# Altium footprint library PcbLib1.PcbLib: 30 footprints (part 2 of 2)
Each footprint in its own frame and in the unit in brackets; x right, y up, seen from the top. Pads: shape width x height; smd on the part's side, far side on the other; paste and mask are expansions set on the pad; w line width, h text height; cw(c..) or ccw(c..) is an arc to the next point about the centre after c.
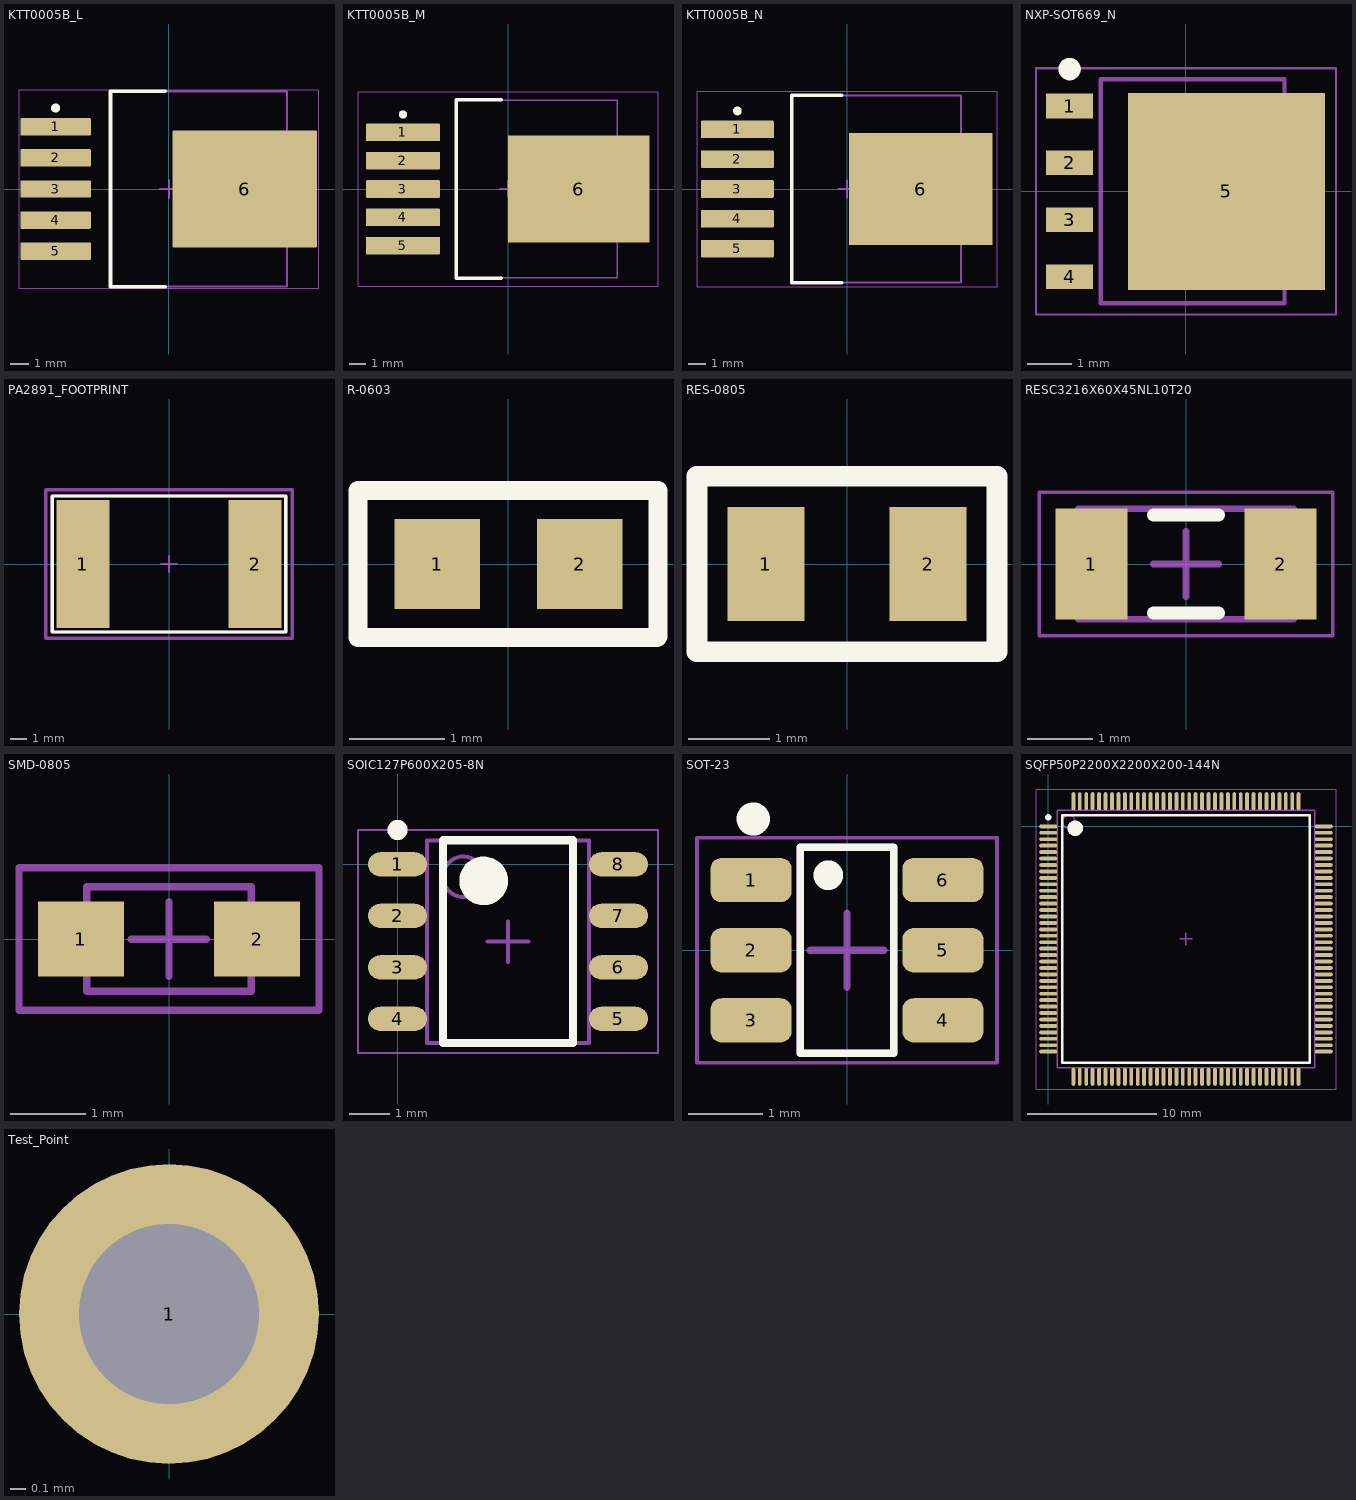
[diagram p1: the footprints below, top view; thin cyan lines are the x and y axes]

## KTT0005B_L [mm] "DPAK, 5-Leads, Body 10.65x9.65mm, Pitch 1.7mm, IPC High Density"
height 4.83
pads (6):
  rrect11% 3.85x0.95 smd: 1(-6.2,3.4) 2(-6.2,1.7) 3(-6.2,0) 4(-6.2,-1.7) 5(-6.2,-3.4)
  rrect2% 7.9x6.4 smd: 6(4.15,0)
Top Overlay:
  circle w0.25: c-6.2,4.425 r0.125
  lines w0.2: -0.2,-5.35 -3.2,-5.35 -3.2,5.35 -0.2,5.35
Mechanical 1:
  text ".Designator" at -1.905,-0.508 h1.3
Mechanical 13:
  lines w0.1: -3.2,-5.325 -3.2,5.325 6.45,5.325 6.45,-5.325 -3.2,-5.325
Mechanical 15:
  lines w0.05: -8.2,-5.425 -8.2,5.425 8.2,5.425 8.2,-5.425 -8.2,-5.425
  lines w0.1: -0.5,0 0.5,0 ; 0,-0.5 0,0.5
3D body: height 4.83, standoff 0, extent -3.2,-5.325 6.45,5.325

## KTT0005B_M [mm] "DPAK, 5-Leads, Body 10.65x9.65mm, Pitch 1.7mm, IPC Low Density"
height 4.83
pads (6):
  rrect10% 4.45x1.05 smd: 1(-6.3,3.4) 2(-6.3,1.7) 3(-6.3,0) 4(-6.3,-1.7) 5(-6.3,-3.4)
  rrect2% 8.5x6.45 smd: 6(4.25,0)
Top Overlay:
  circle w0.25: c-6.3,4.475 r0.125
  lines w0.2: -0.4,-5.35 -3.1,-5.35 -3.1,5.35 -0.4,5.35
Mechanical 1:
  text ".Designator" at -1.905,-0.635 h1.3
Mechanical 13:
  lines w0.1: -3.1,-5.325 -3.1,5.325 6.55,5.325 6.55,-5.325 -3.1,-5.325
Mechanical 15:
  lines w0.05: -9,-5.825 -9,5.825 9,5.825 9,-5.825 -9,-5.825
  lines w0.1: -0.5,0 0.5,0 ; 0,-0.5 0,0.5
3D body: height 4.83, standoff 0, extent -3.1,-5.325 6.55,5.325

## KTT0005B_N [mm] "DPAK, 5-Leads, Body 10.65x9.65mm, Pitch 1.7mm, IPC Medium Density"
height 4.83
pads (6):
  rrect10% 4.15x1 smd: 1(-6.25,3.4) 2(-6.25,1.7) 3(-6.25,0) 4(-6.25,-1.7) 5(-6.25,-3.4)
  rrect2% 8.2x6.4 smd: 6(4.2,0)
Top Overlay:
  circle w0.25: c-6.25,4.45 r0.125
  lines w0.2: -0.3,-5.35 -3.15,-5.35 -3.15,5.35 -0.3,5.35
Mechanical 1:
  text ".Designator" at -1.905,-0.508 h1.3
Mechanical 13:
  lines w0.1: -3.15,-5.325 -3.15,5.325 6.5,5.325 6.5,-5.325 -3.15,-5.325
Mechanical 15:
  lines w0.05: -8.55,-5.575 -8.55,5.575 8.55,5.575 8.55,-5.575 -8.55,-5.575
  lines w0.1: -0.5,0 0.5,0 ; 0,-0.5 0,0.5
3D body: height 4.83, standoff 0, extent -3.15,-5.325 6.5,5.325

## NXP-SOT669_N [mm] "DPAK, 4-Leads, Body 5x4.1mm, Pitch 1.27mm, IPC Medium Density"
height 1.2
pads (5):
  rect 1.05x0.55 smd: 1(-2.6,1.905) 2(-2.6,0.635) 3(-2.6,-0.635) 4(-2.6,-1.905)
  rect 4.4x4.4 smd: 5(0.9,0)
Top Overlay:
  circle w0.25: c-2.6,2.73 r0.125
Mechanical 13:
  lines w0.1: -1.9,-2.5 2.2,-2.5 2.2,2.5 -1.9,2.5 -1.9,-2.5
Mechanical 15:
  lines w0.05: -3.35,-2.75 3.35,-2.75 3.35,2.75 -3.35,2.75 -3.35,-2.75
  lines w0.1: -0.5,0 0.5,0 ; 0,-0.5 0,0.5
3D body: height 1.2, standoff 0, extent -1.9,-2.5 2.2,2.5

## PA2891_FOOTPRINT [mm]
pads (2):
  rect 3.18x7.65 smd paste+0: 1(-5.15,0) 2(5.15,0)
Top Overlay:
  lines w0.2: -6.985,-1.778 -6.985,4.064 6.985,4.064 6.985,-4.064 ; -6.985,-0.381 -6.985,-4.064 6.985,-4.064 ; 6.985,-2.425 6.985,-4.064
Mechanical 5:
  lines w0.2: -6.985,-4.064 -6.985,4.064 6.985,4.064 6.985,-4.064 -6.985,-4.064
  text ".Designator" at 0,0.188 h1
Mechanical 15:
  lines w0.1: -0.5,0 0.5,0 ; 0,-0.5 0,0.5
  lines w0.2: -7.366,-4.445 7.366,-4.445 7.366,4.445 -7.366,4.445 -7.366,-4.445
3D body: height 8, standoff 0, extent -6.35,-3.556 6.35,3.683

## PCBComponent_1 [mm]

## R-0603 [mm] "Resistor  0603"
height 0.6
pads (2):
  rect 0.9x0.95 smd: 1(-0.75,0) 2(0.75,0)
Top Overlay:
  lines w0.2: -1.585,-0.775 1.4,-0.775 1.565,-0.775 1.575,-0.765 1.575,0.775 1.4,0.775 -1.4,0.775 -1.585,0.775 -1.585,-0.775
3D body "CAP0603.STEP": height 0.86, standoff 0, extent -0.8,-0.4 0.8,0.4

## RES-0805 [mm] "SMD, 0805"
height 0.55
pads (2):
  rect 0.95x1.4 smd: 1(-1,0) 2(1,0)
Top Overlay:
  lines w0.254: -1.85,-1.08 1.85,-1.08 1.85,1.08 -1.85,1.08 -1.85,-1.08
3D body "RESC0805.STEP": height 0.45, standoff 0, extent -1,-0.62 1,0.63

## RESC3216X60X45NL10T20 [mm] "Chip Resistor, 2-Leads, Body 3.20x1.60mm, IPC Medium Density"
height 0.6
pads (2):
  rect 1.1x1.7 smd: 1(-1.45,0) 2(1.45,0)
Top Overlay:
  lines w0.2: -0.5,-0.75 0.5,-0.75 ; -0.5,0.75 0.5,0.75
Mechanical 13:
  lines w0.1: -1.65,-0.85 -1.65,0.85 1.65,0.85 1.65,-0.85 -1.65,-0.85
Mechanical 15:
  lines w0.05: -2.25,-1.1 -2.25,1.1 2.25,1.1 2.25,-1.1 -2.25,-1.1
  lines w0.1: -0.5,0 0.5,0 ; 0,-0.5 0,0.5
3D body: height 0.6, standoff 0, extent -1.2,-0.85 1.2,0.85
3D body: height 0.6, standoff 0, extent -1.65,-0.85 -1.2,0.85
3D body: height 0.6, standoff 0, extent 1.2,-0.85 1.65,0.85

## SMD-0805 [mm] "Chip Inductor, 2-Leads, Body 2.0x1.2mm"
height 1.1
pads (2):
  rect 1.15x1 smd: 1(-1.175,0) 2(1.175,0)
Mechanical 13:
  lines w0.1: -1.1,-0.7 -1.1,0.7 1.1,0.7 1.1,-0.7 -1.1,-0.7
Mechanical 15:
  lines w0.1: -0.5,0 0.5,0 ; 0,-0.5 0,0.5 ; -2,-0.95 -2,0.95 2,0.95 2,-0.95 -2,-0.95
3D body "74279201.stp": height 0.89, standoff -0.01, extent -1,-0.6 1,0.6

## SOIC127P600X205-8N [mm] "SOIC, 8-Leads, Body 4.90x3.90mm, Pitch 1.27mm, IPC Medium Density"
height 2.05
pads (8):
  oval 1.45x0.6 smd: 1(0,0) 2(0,-1.27) 3(0,-2.54) 4(0,-3.81) 5(5.45,-3.81) 6(5.45,-2.54) 7(5.45,-1.27) 8(5.45,0)
Top Overlay:
  circle w0.6: c2.125,-0.405 r0.3
  circle w0.25: c0,0.85 r0.125
  lines w0.2: 1.125,-4.405 4.325,-4.405 4.325,0.595 1.125,0.595 1.125,-4.405
Mechanical 13:
  circle w0.1: c1.625,-0.305 r0.5
  lines w0.1: 0.725,-4.405 4.725,-4.405 4.725,0.595 0.725,0.595 0.725,-4.405
Mechanical 15:
  lines w0.05: -0.975,-4.655 6.425,-4.655 6.425,0.845 -0.975,0.845 -0.975,-4.655
  lines w0.1: 2.225,-1.905 3.225,-1.905 ; 2.725,-2.405 2.725,-1.405
3D body: height 2.05, standoff 0.1, extent 0.725,-4.405 4.725,0.595

## SOT-23 [mm] "Pitch 0.95mm"
height 1.1
pads (6):
  rrect50% 1.1x0.6 smd: 1(-1.3,0.95) 2(-1.3,0) 3(-1.3,-0.95) 4(1.3,-0.95) 5(1.3,0) 6(1.3,0.95)
Top Overlay:
  circle w0.3: c-0.254,1.016 r0.05
  circle w0.35: c-1.27,1.778 r0.05
  lines w0.1: -0.635,-1.397 -0.635,1.397 0.635,1.397 0.635,-1.397 -0.635,-1.397
Mechanical 13:
  lines w0.1: -0.635,-1.397 -0.635,1.397 0.635,1.397 0.635,-1.397 -0.635,-1.397
Mechanical 15:
  lines w0.05: -2.032,-1.524 -2.032,1.524 2.032,1.524 2.032,-1.524 -2.032,-1.524
  lines w0.1: -0.5,0 0.5,0 ; 0,-0.5 0,0.5
3D body: height 1.1, standoff 0.1, extent -0.762,-1.397 0.762,1.397

## SQFP50P2200X2200X200-144N [mm] "SQFP, 144-Leads, Body 20.00x20.00mm, Pitch 0.50mm, IPC Medium Density"
height 2
pads (144):
  oval 1.4x0.3 smd: 1(0,0) 2(0,-0.5) 3(0,-1) 4(0,-1.5) 5(0,-2) 6(0,-2.5) 7(0,-3) 8(0,-3.5) 9(0,-4) 10(0,-4.5) 11(0,-5) 12(0,-5.5) 13(0,-6) 14(0,-6.5) 15(0,-7) 16(0,-7.5) 17(0,-8) 18(0,-8.5) 19(0,-9) 20(0,-9.5) 21(0,-10) 22(0,-10.5) 23(0,-11) 24(0,-11.5) 25(0,-12) 26(0,-12.5) 27(0,-13) 28(0,-13.5) 29(0,-14) 30(0,-14.5) 31(0,-15) 32(0,-15.5) 33(0,-16) 34(0,-16.5) 35(0,-17) 36(0,-17.5) 73(21.4,-17.5) 74(21.4,-17) 75(21.4,-16.5) 76(21.4,-16) 77(21.4,-15.5) 78(21.4,-15) 79(21.4,-14.5) 80(21.4,-14) 81(21.4,-13.5) 82(21.4,-13) 83(21.4,-12.5) 84(21.4,-12) 85(21.4,-11.5) 86(21.4,-11) 87(21.4,-10.5) 88(21.4,-10) 89(21.4,-9.5) 90(21.4,-9) 91(21.4,-8.5) 92(21.4,-8) 93(21.4,-7.5) 94(21.4,-7) 95(21.4,-6.5) 96(21.4,-6) 97(21.4,-5.5) 98(21.4,-5) 99(21.4,-4.5) 100(21.4,-4) 101(21.4,-3.5) 102(21.4,-3) 103(21.4,-2.5) 104(21.4,-2) 105(21.4,-1.5) 106(21.4,-1) 107(21.4,-0.5) 108(21.4,0)
  oval 0.3x1.4 smd: 37(1.95,-19.45) 38(2.45,-19.45) 39(2.95,-19.45) 40(3.45,-19.45) 41(3.95,-19.45) 42(4.45,-19.45) 43(4.95,-19.45) 44(5.45,-19.45) 45(5.95,-19.45) 46(6.45,-19.45) 47(6.95,-19.45) 48(7.45,-19.45) 49(7.95,-19.45) 50(8.45,-19.45) 51(8.95,-19.45) 52(9.45,-19.45) 53(9.95,-19.45) 54(10.45,-19.45) 55(10.95,-19.45) 56(11.45,-19.45) 57(11.95,-19.45) 58(12.45,-19.45) 59(12.95,-19.45) 60(13.45,-19.45) 61(13.95,-19.45) 62(14.45,-19.45) 63(14.95,-19.45) 64(15.45,-19.45) 65(15.95,-19.45) 66(16.45,-19.45) 67(16.95,-19.45) 68(17.45,-19.45) 69(17.95,-19.45) 70(18.45,-19.45) 71(18.95,-19.45) 72(19.45,-19.45) 109(19.45,1.95) 110(18.95,1.95) 111(18.45,1.95) 112(17.95,1.95) 113(17.45,1.95) 114(16.95,1.95) 115(16.45,1.95) 116(15.95,1.95) 117(15.45,1.95) 118(14.95,1.95) 119(14.45,1.95) 120(13.95,1.95) 121(13.45,1.95) 122(12.95,1.95) 123(12.45,1.95) 124(11.95,1.95) 125(11.45,1.95) 126(10.95,1.95) 127(10.45,1.95) 128(9.95,1.95) 129(9.45,1.95) 130(8.95,1.95) 131(8.45,1.95) 132(7.95,1.95) 133(7.45,1.95) 134(6.95,1.95) 135(6.45,1.95) 136(5.95,1.95) 137(5.45,1.95) 138(4.95,1.95) 139(4.45,1.95) 140(3.95,1.95) 141(3.45,1.95) 142(2.95,1.95) 143(2.45,1.95) 144(1.95,1.95)
Top Overlay:
  circle w0.25: c0,0.7 r0.125
  circle w0.6: c2.1,-0.15 r0.3
  lines w0.2: 1.1,-18.35 1.1,0.85 20.3,0.85 20.3,-18.35 1.1,-18.35
Mechanical 13:
  circle w0.1: c1.6,0.35 r0.5
  lines w0.1: 0.7,-18.75 0.7,1.25 20.7,1.25 20.7,-18.75 0.7,-18.75
Mechanical 15:
  lines w0.05: -0.95,-20.4 -0.95,2.9 22.35,2.9 22.35,-20.4 -0.95,-20.4
  lines w0.1: 10.2,-8.75 11.2,-8.75 ; 10.7,-9.25 10.7,-8.25
3D body "User Library-LQFP144-1.step": height 1.63, standoff 0.03, extent -0.322,-19.786 21.678,2.214

## Test_Point [mm]
height 8
pads (1):
  round 2 hole 1.2: 1(0,0)